# Altium footprint library Diod.PcbLib: 392 footprints (part 4 of 25)
Each footprint in its own frame and in the unit in brackets; x right, y up, seen from the top. Pads: shape width x height; smd on the part's side, far side on the other; paste and mask are expansions set on the pad; w line width, h text height; cw(c..) or ccw(c..) is an arc to the next point about the centre after c.
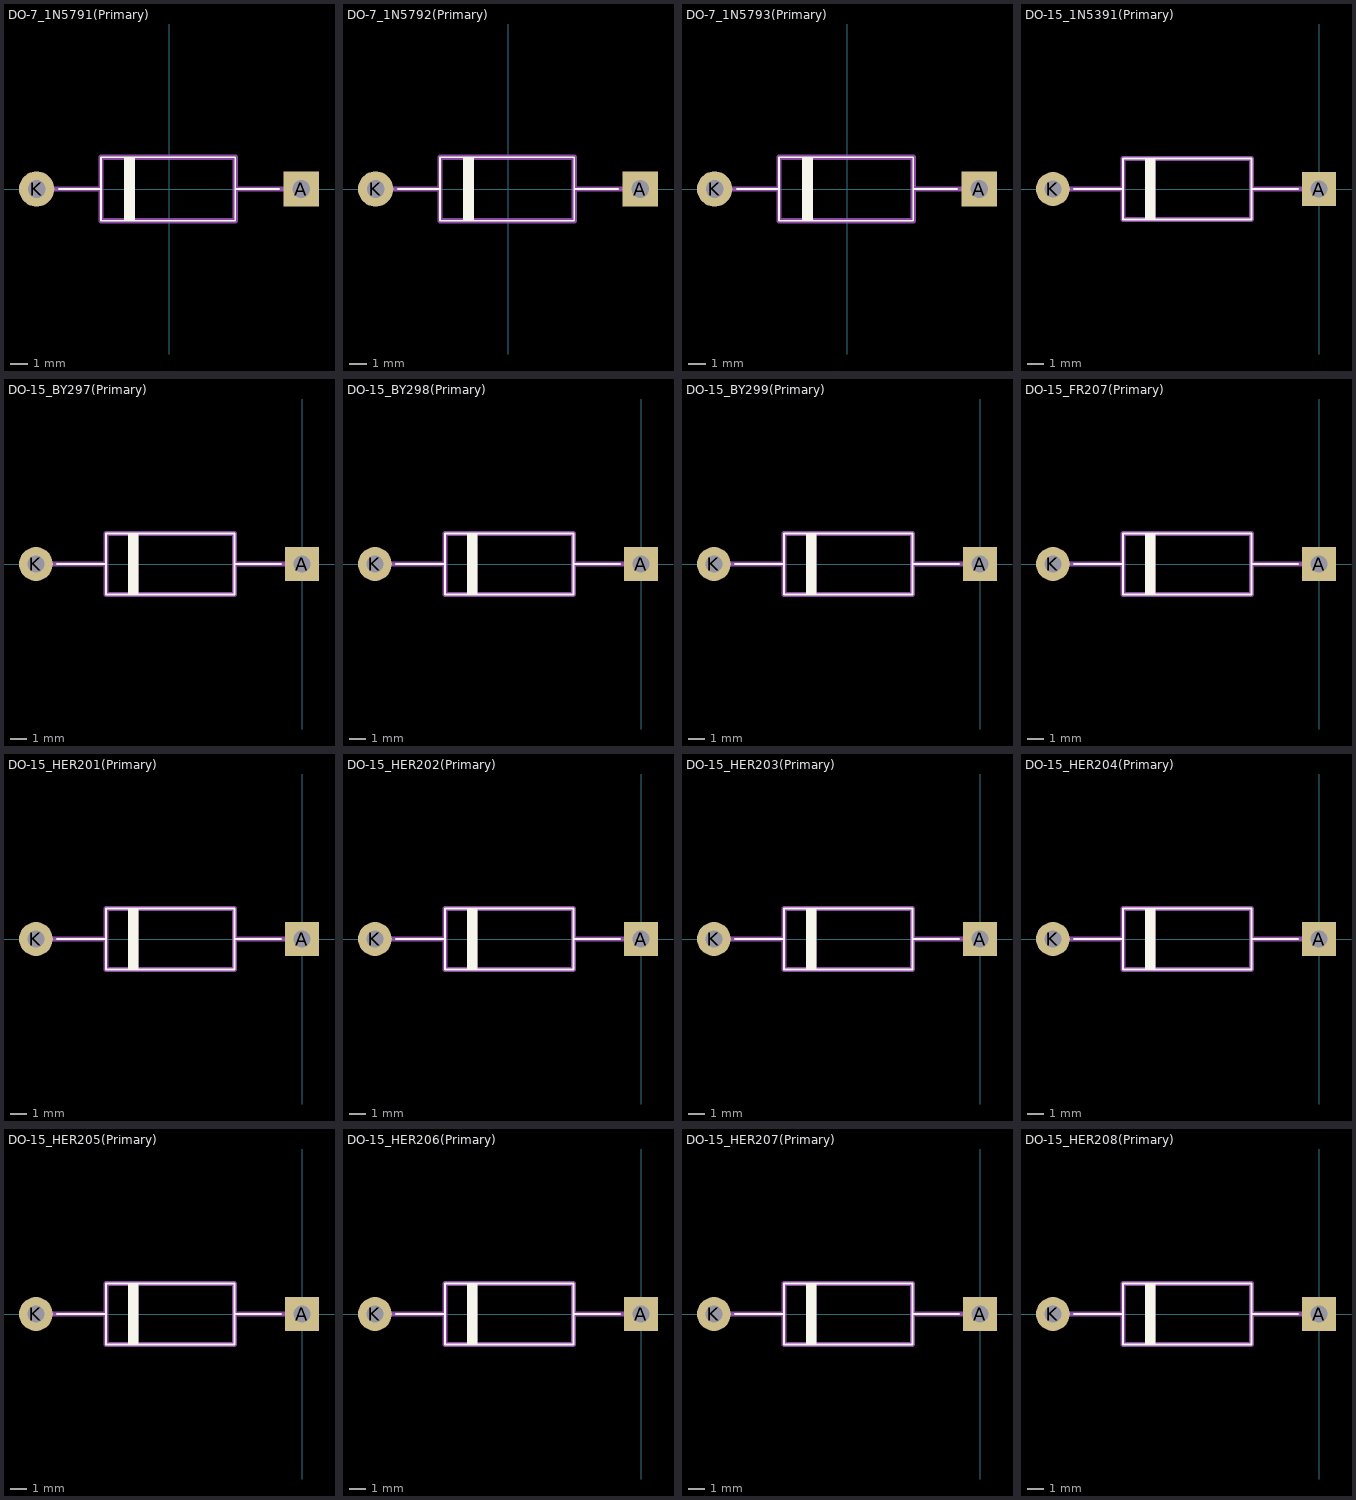
[diagram p3: the footprints below, top view; thin cyan lines are the x and y axes]

## DO-7_1N5791(Primary) [mm]
pads (2):
  rect 2x2 hole 1: A(7.5,0)
  round 2 hole 1: K(-7.5,0)
Top Overlay:
  region: -2.55,-1.8 -1.95,-1.8 -1.95,1.8 -2.55,1.8
  lines w0.1: -6.25,0 -3.85,0 ; 6.25,0 3.75,0 ; 3.75,0 3.75,1.8 -3.85,1.8 -3.85,-1.8 3.75,-1.8 3.75,0
Mechanical 1:
  region: -2.55,-1.8 -1.95,-1.8 -1.95,1.8 -2.55,1.8
  lines w0.3: -7.5,0 -3.85,0 ; 7.5,0 3.75,0 ; 3.75,0 3.75,1.8 -3.85,1.8 -3.85,-1.8 3.75,-1.8 3.75,0

## DO-7_1N5792(Primary) [mm]
pads (2):
  rect 2x2 hole 1: A(7.5,0)
  round 2 hole 1: K(-7.5,0)
Top Overlay:
  region: -2.55,-1.8 -1.95,-1.8 -1.95,1.8 -2.55,1.8
  lines w0.1: -6.25,0 -3.85,0 ; 6.25,0 3.75,0 ; 3.75,0 3.75,1.8 -3.85,1.8 -3.85,-1.8 3.75,-1.8 3.75,0
Mechanical 1:
  region: -2.55,-1.8 -1.95,-1.8 -1.95,1.8 -2.55,1.8
  lines w0.3: -7.5,0 -3.85,0 ; 7.5,0 3.75,0 ; 3.75,0 3.75,1.8 -3.85,1.8 -3.85,-1.8 3.75,-1.8 3.75,0

## DO-7_1N5793(Primary) [mm]
pads (2):
  rect 2x2 hole 1: A(7.5,0)
  round 2 hole 1: K(-7.5,0)
Top Overlay:
  region: -2.55,-1.8 -1.95,-1.8 -1.95,1.8 -2.55,1.8
  lines w0.1: -6.25,0 -3.85,0 ; 6.25,0 3.75,0 ; 3.75,0 3.75,1.8 -3.85,1.8 -3.85,-1.8 3.75,-1.8 3.75,0
Mechanical 1:
  region: -2.55,-1.8 -1.95,-1.8 -1.95,1.8 -2.55,1.8
  lines w0.3: -7.5,0 -3.85,0 ; 7.5,0 3.75,0 ; 3.75,0 3.75,1.8 -3.85,1.8 -3.85,-1.8 3.75,-1.8 3.75,0

## DO-15_1N5391(Primary) [mm]
pads (2):
  rect 2x2 hole 1: A(0,0)
  round 2 hole 1: K(-15.75,0)
Top Overlay:
  region: -10.3,-1.8 -9.7,-1.8 -9.7,1.8 -10.3,1.8
  lines w0.1: -14.5,0 -11.6,0 ; -1.25,0 -4,0 ; -4,0 -4,1.8 -11.6,1.8 -11.6,-1.8 -4,-1.8 -4,0
Mechanical 1:
  region: -10.3,-1.8 -9.7,-1.8 -9.7,1.8 -10.3,1.8
  lines w0.3: -15.75,0 -11.6,0 ; 0,0 -4,0 ; -4,0 -4,1.8 -11.6,1.8 -11.6,-1.8 -4,-1.8 -4,0

## DO-15_BY297(Primary) [mm]
pads (2):
  rect 2x2 hole 1: A(0,0)
  round 2 hole 1: K(-15.75,0)
Top Overlay:
  region: -10.3,-1.8 -9.7,-1.8 -9.7,1.8 -10.3,1.8
  lines w0.1: -14.5,0 -11.6,0 ; -1.25,0 -4,0 ; -4,0 -4,1.8 -11.6,1.8 -11.6,-1.8 -4,-1.8 -4,0
Mechanical 1:
  region: -10.3,-1.8 -9.7,-1.8 -9.7,1.8 -10.3,1.8
  lines w0.3: -15.75,0 -11.6,0 ; 0,0 -4,0 ; -4,0 -4,1.8 -11.6,1.8 -11.6,-1.8 -4,-1.8 -4,0

## DO-15_BY298(Primary) [mm]
pads (2):
  rect 2x2 hole 1: A(0,0)
  round 2 hole 1: K(-15.75,0)
Top Overlay:
  region: -10.3,-1.8 -9.7,-1.8 -9.7,1.8 -10.3,1.8
  lines w0.1: -14.5,0 -11.6,0 ; -1.25,0 -4,0 ; -4,0 -4,1.8 -11.6,1.8 -11.6,-1.8 -4,-1.8 -4,0
Mechanical 1:
  region: -10.3,-1.8 -9.7,-1.8 -9.7,1.8 -10.3,1.8
  lines w0.3: -15.75,0 -11.6,0 ; 0,0 -4,0 ; -4,0 -4,1.8 -11.6,1.8 -11.6,-1.8 -4,-1.8 -4,0

## DO-15_BY299(Primary) [mm]
pads (2):
  rect 2x2 hole 1: A(0,0)
  round 2 hole 1: K(-15.75,0)
Top Overlay:
  region: -10.3,-1.8 -9.7,-1.8 -9.7,1.8 -10.3,1.8
  lines w0.1: -14.5,0 -11.6,0 ; -1.25,0 -4,0 ; -4,0 -4,1.8 -11.6,1.8 -11.6,-1.8 -4,-1.8 -4,0
Mechanical 1:
  region: -10.3,-1.8 -9.7,-1.8 -9.7,1.8 -10.3,1.8
  lines w0.3: -15.75,0 -11.6,0 ; 0,0 -4,0 ; -4,0 -4,1.8 -11.6,1.8 -11.6,-1.8 -4,-1.8 -4,0

## DO-15_FR207(Primary) [mm]
pads (2):
  rect 2x2 hole 1: A(0,0)
  round 2 hole 1: K(-15.75,0)
Top Overlay:
  region: -10.3,-1.8 -9.7,-1.8 -9.7,1.8 -10.3,1.8
  lines w0.1: -14.5,0 -11.6,0 ; -1.25,0 -4,0 ; -4,0 -4,1.8 -11.6,1.8 -11.6,-1.8 -4,-1.8 -4,0
Mechanical 1:
  region: -10.3,-1.8 -9.7,-1.8 -9.7,1.8 -10.3,1.8
  lines w0.3: -15.75,0 -11.6,0 ; 0,0 -4,0 ; -4,0 -4,1.8 -11.6,1.8 -11.6,-1.8 -4,-1.8 -4,0

## DO-15_HER201(Primary) [mm]
pads (2):
  rect 2x2 hole 1: A(0,0)
  round 2 hole 1: K(-15.75,0)
Top Overlay:
  region: -10.3,-1.8 -9.7,-1.8 -9.7,1.8 -10.3,1.8
  lines w0.1: -14.5,0 -11.6,0 ; -1.25,0 -4,0 ; -4,0 -4,1.8 -11.6,1.8 -11.6,-1.8 -4,-1.8 -4,0
Mechanical 1:
  region: -10.3,-1.8 -9.7,-1.8 -9.7,1.8 -10.3,1.8
  lines w0.3: -15.75,0 -11.6,0 ; 0,0 -4,0 ; -4,0 -4,1.8 -11.6,1.8 -11.6,-1.8 -4,-1.8 -4,0

## DO-15_HER202(Primary) [mm]
pads (2):
  rect 2x2 hole 1: A(0,0)
  round 2 hole 1: K(-15.75,0)
Top Overlay:
  region: -10.3,-1.8 -9.7,-1.8 -9.7,1.8 -10.3,1.8
  lines w0.1: -14.5,0 -11.6,0 ; -1.25,0 -4,0 ; -4,0 -4,1.8 -11.6,1.8 -11.6,-1.8 -4,-1.8 -4,0
Mechanical 1:
  region: -10.3,-1.8 -9.7,-1.8 -9.7,1.8 -10.3,1.8
  lines w0.3: -15.75,0 -11.6,0 ; 0,0 -4,0 ; -4,0 -4,1.8 -11.6,1.8 -11.6,-1.8 -4,-1.8 -4,0

## DO-15_HER203(Primary) [mm]
pads (2):
  rect 2x2 hole 1: A(0,0)
  round 2 hole 1: K(-15.75,0)
Top Overlay:
  region: -10.3,-1.8 -9.7,-1.8 -9.7,1.8 -10.3,1.8
  lines w0.1: -14.5,0 -11.6,0 ; -1.25,0 -4,0 ; -4,0 -4,1.8 -11.6,1.8 -11.6,-1.8 -4,-1.8 -4,0
Mechanical 1:
  region: -10.3,-1.8 -9.7,-1.8 -9.7,1.8 -10.3,1.8
  lines w0.3: -15.75,0 -11.6,0 ; 0,0 -4,0 ; -4,0 -4,1.8 -11.6,1.8 -11.6,-1.8 -4,-1.8 -4,0

## DO-15_HER204(Primary) [mm]
pads (2):
  rect 2x2 hole 1: A(0,0)
  round 2 hole 1: K(-15.75,0)
Top Overlay:
  region: -10.3,-1.8 -9.7,-1.8 -9.7,1.8 -10.3,1.8
  lines w0.1: -14.5,0 -11.6,0 ; -1.25,0 -4,0 ; -4,0 -4,1.8 -11.6,1.8 -11.6,-1.8 -4,-1.8 -4,0
Mechanical 1:
  region: -10.3,-1.8 -9.7,-1.8 -9.7,1.8 -10.3,1.8
  lines w0.3: -15.75,0 -11.6,0 ; 0,0 -4,0 ; -4,0 -4,1.8 -11.6,1.8 -11.6,-1.8 -4,-1.8 -4,0

## DO-15_HER205(Primary) [mm]
pads (2):
  rect 2x2 hole 1: A(0,0)
  round 2 hole 1: K(-15.75,0)
Top Overlay:
  region: -10.3,-1.8 -9.7,-1.8 -9.7,1.8 -10.3,1.8
  lines w0.1: -14.5,0 -11.6,0 ; -1.25,0 -4,0 ; -4,0 -4,1.8 -11.6,1.8 -11.6,-1.8 -4,-1.8 -4,0
Mechanical 1:
  region: -10.3,-1.8 -9.7,-1.8 -9.7,1.8 -10.3,1.8
  lines w0.3: -15.75,0 -11.6,0 ; 0,0 -4,0 ; -4,0 -4,1.8 -11.6,1.8 -11.6,-1.8 -4,-1.8 -4,0

## DO-15_HER206(Primary) [mm]
pads (2):
  rect 2x2 hole 1: A(0,0)
  round 2 hole 1: K(-15.75,0)
Top Overlay:
  region: -10.3,-1.8 -9.7,-1.8 -9.7,1.8 -10.3,1.8
  lines w0.1: -14.5,0 -11.6,0 ; -1.25,0 -4,0 ; -4,0 -4,1.8 -11.6,1.8 -11.6,-1.8 -4,-1.8 -4,0
Mechanical 1:
  region: -10.3,-1.8 -9.7,-1.8 -9.7,1.8 -10.3,1.8
  lines w0.3: -15.75,0 -11.6,0 ; 0,0 -4,0 ; -4,0 -4,1.8 -11.6,1.8 -11.6,-1.8 -4,-1.8 -4,0

## DO-15_HER207(Primary) [mm]
pads (2):
  rect 2x2 hole 1: A(0,0)
  round 2 hole 1: K(-15.75,0)
Top Overlay:
  region: -10.3,-1.8 -9.7,-1.8 -9.7,1.8 -10.3,1.8
  lines w0.1: -14.5,0 -11.6,0 ; -1.25,0 -4,0 ; -4,0 -4,1.8 -11.6,1.8 -11.6,-1.8 -4,-1.8 -4,0
Mechanical 1:
  region: -10.3,-1.8 -9.7,-1.8 -9.7,1.8 -10.3,1.8
  lines w0.3: -15.75,0 -11.6,0 ; 0,0 -4,0 ; -4,0 -4,1.8 -11.6,1.8 -11.6,-1.8 -4,-1.8 -4,0

## DO-15_HER208(Primary) [mm]
pads (2):
  rect 2x2 hole 1: A(0,0)
  round 2 hole 1: K(-15.75,0)
Top Overlay:
  region: -10.3,-1.8 -9.7,-1.8 -9.7,1.8 -10.3,1.8
  lines w0.1: -14.5,0 -11.6,0 ; -1.25,0 -4,0 ; -4,0 -4,1.8 -11.6,1.8 -11.6,-1.8 -4,-1.8 -4,0
Mechanical 1:
  region: -10.3,-1.8 -9.7,-1.8 -9.7,1.8 -10.3,1.8
  lines w0.3: -15.75,0 -11.6,0 ; 0,0 -4,0 ; -4,0 -4,1.8 -11.6,1.8 -11.6,-1.8 -4,-1.8 -4,0